# Altium schematic symbol library TP Multilayer.Schlib: 1 symbol
Pins are listed as number, name and electrical type; pins without a type are passive.

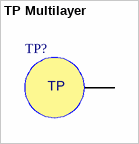
[diagram p0: symbol TP Multilayer]

## TP Multilayer
designator TP?  (no BOM)
Test point
pins: 1 TP